# Altium schematic symbol library 74S64.SchLib: 1 symbol
Pins are listed as number, name and electrical type; pins without a type are passive.

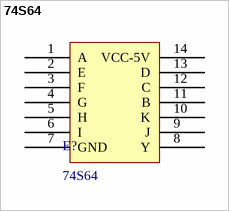
[diagram p0: symbol 74S64]

## 74S64
designator E?
footprint DIP14
pins: 1 A, 2 E, 3 F, 4 G, 5 H, 6 I, 7 GND, 8 Y, 9 J, 10 K, 11 B, 12 C, 13 D, 14 VCC-5V